# Altium footprint library orbit_PA.PcbLib: 12 footprints
Each footprint in its own frame and in the unit in brackets; x right, y up, seen from the top. Pads: shape width x height; smd on the part's side, far side on the other; paste and mask are expansions set on the pad; w line width, h text height; cw(c..) or ccw(c..) is an arc to the next point about the centre after c.
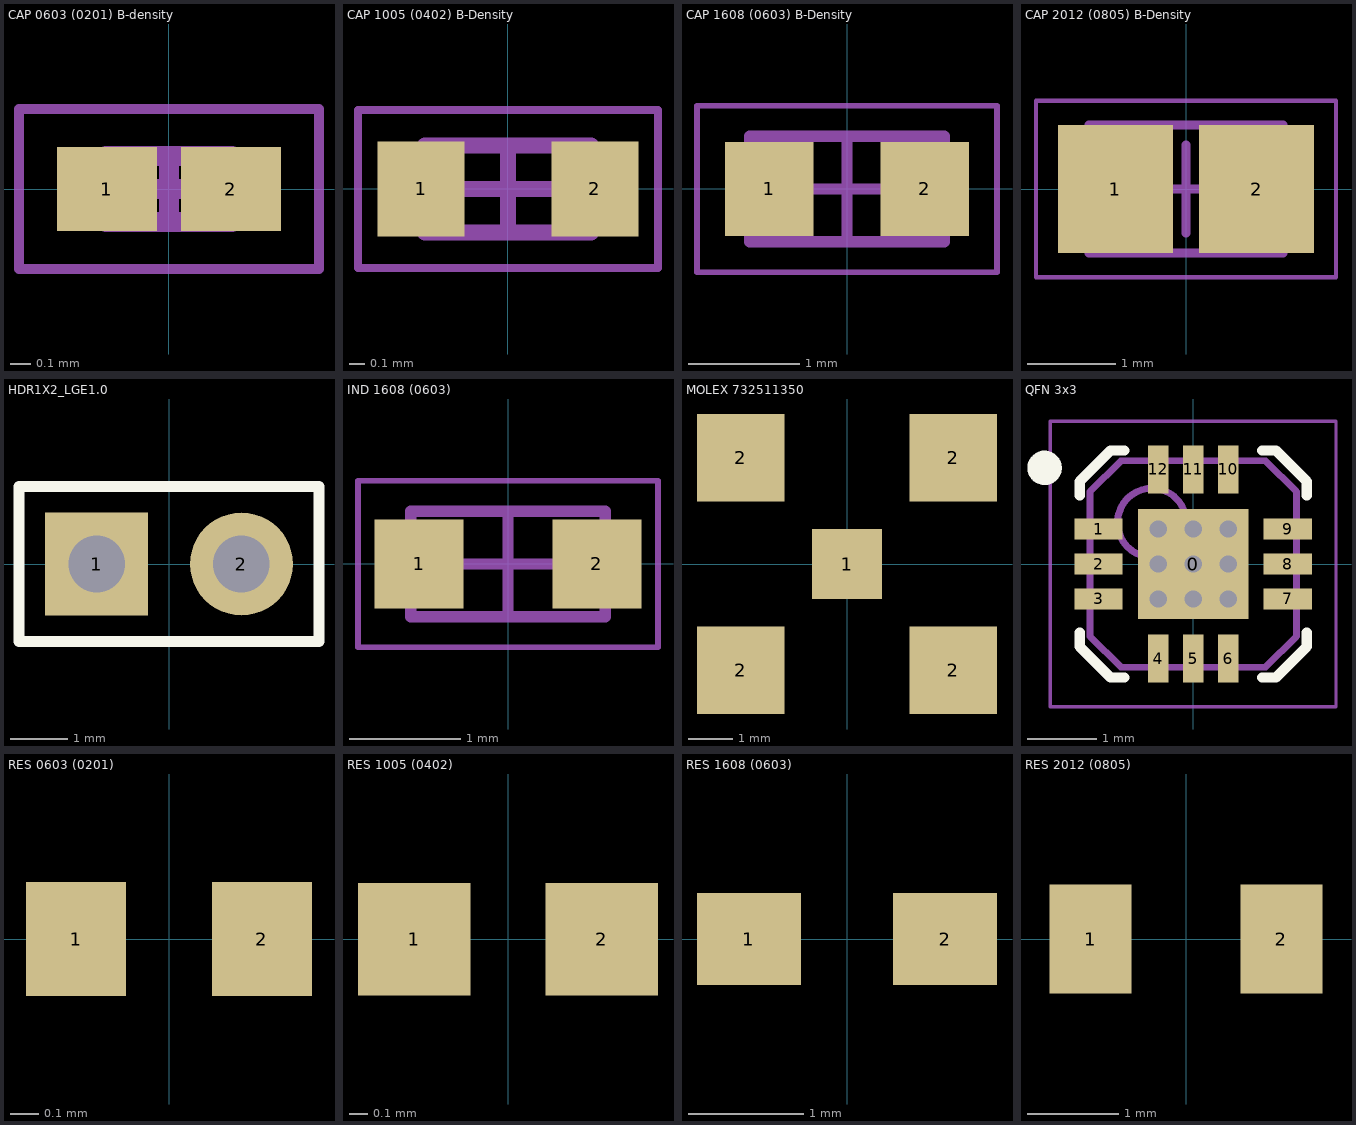
[diagram p0: the footprints below, top view; thin cyan lines are the x and y axes]

## CAP 0603 (0201) B-density [mm]
height 0.33
pads (2):
  rect 0.5x0.42 smd: 1(-0.31,0) 2(0.31,0)
Mechanical 13:
  lines w0.1: -0.315,-0.165 -0.315,0.165 0.315,0.165 0.315,-0.165 -0.315,-0.165
Mechanical 15:
  lines w0.05: -0.75,-0.4 -0.75,0.4 0.75,0.4 0.75,-0.4 -0.75,-0.4
  lines w0.1: -0.165,0 0.165,0 ; 0,-0.165 0,0.165
3D body: height 0.33, standoff 0, extent -0.165,-0.165 0.165,0.165
3D body: height 0.33, standoff 0, extent -0.315,-0.165 -0.165,0.165
3D body: height 0.33, standoff 0, extent 0.165,-0.165 0.315,0.165

## CAP 1005 (0402) B-Density [mm]
height 0.6
pads (2):
  rect 0.55x0.6 smd: 1(-0.55,0) 2(0.55,0)
Mechanical 13:
  lines w0.1: -0.525,-0.275 -0.525,0.275 0.525,0.275 0.525,-0.275 -0.525,-0.275
Mechanical 15:
  lines w0.05: -0.95,-0.5 -0.95,0.5 0.95,0.5 0.95,-0.5 -0.95,-0.5
  lines w0.1: -0.275,0 0.275,0 ; 0,-0.275 0,0.275
3D body: height 0.6, standoff 0, extent -0.225,-0.275 0.225,0.275
3D body: height 0.6, standoff 0, extent -0.525,-0.275 -0.225,0.275
3D body: height 0.6, standoff 0, extent 0.225,-0.275 0.525,0.275

## CAP 1608 (0603) B-Density [mm]
height 0.92
pads (2):
  rect 0.8x0.85 smd: 1(-0.7,0) 2(0.7,0)
Mechanical 13:
  lines w0.1: -0.875,-0.475 0.875,-0.475 0.875,0.475 -0.875,0.475 -0.875,-0.475
Mechanical 15:
  lines w0.05: -1.35,-0.75 1.35,-0.75 1.35,0.75 -1.35,0.75 -1.35,-0.75
  lines w0.1: -0.475,0 0.475,0 ; 0,-0.475 0,0.475
3D body: height 0.92, standoff 0, extent 0.525,-0.475 0.875,0.475
3D body: height 0.92, standoff 0, extent -0.875,-0.475 -0.525,0.475
3D body: height 0.92, standoff 0, extent -0.525,-0.475 0.525,0.475

## CAP 2012 (0805) B-Density [mm]
height 1.4
pads (2):
  rect 1.3x1.45 smd: 1(-0.8,0) 2(0.8,0)
Mechanical 13:
  lines w0.1: -1.1,-0.725 -1.1,0.725 1.1,0.725 1.1,-0.725 -1.1,-0.725
Mechanical 15:
  lines w0.05: -1.7,-1 -1.7,1 1.7,1 1.7,-1 -1.7,-1
  lines w0.1: -0.5,0 0.5,0 ; 0,-0.5 0,0.5
3D body: height 1.4, standoff 0, extent -0.6,-0.725 0.6,0.725
3D body: height 1.4, standoff 0, extent -1.1,-0.725 -0.6,0.725
3D body: height 1.4, standoff 0, extent 0.6,-0.725 1.1,0.725

## HDR1X2_LGE1.0 [mm] "Connector; Header; 2 Position; 2.54mm (100mil) pitch"
pads (2):
  rect 1.8x1.8 hole 0.991: 1(-1.27,0)
  round 1.8 hole 0.991: 2(1.27,0)
Top Overlay:
  lines w0.2: -2.629,-1.359 -2.629,1.359 2.629,1.359 2.629,-1.359 -2.629,-1.359
3D body "Header1x2.STEP": height 8.54, standoff -3, extent -2.54,-1.245 2.54,1.245

## IND 1608 (0603) [mm]
height 0.95
pads (2):
  rect 0.8x0.8 smd: 1(-0.8,0) 2(0.8,0)
Mechanical 13:
  lines w0.1: -0.875,-0.475 -0.875,0.475 0.875,0.475 0.875,-0.475 -0.875,-0.475
Mechanical 15:
  lines w0.05: -1.35,-0.75 -1.35,0.75 1.35,0.75 1.35,-0.75 -1.35,-0.75
  lines w0.1: -0.475,0 0.475,0 ; 0,-0.475 0,0.475
3D body: height 0.95, standoff 0, extent -0.525,-0.475 0.525,0.475
3D body: height 0.95, standoff 0, extent -0.875,-0.475 -0.525,0.475
3D body: height 0.95, standoff 0, extent 0.525,-0.475 0.875,0.475

## MOLEX 732511350 [mm] "SMA Connector"
height 9.7
pads (5):
  rect 1.57x1.57 smd: 1(0,0)
  rect 1.96x1.96 smd: 2(-2.375,-2.375) 2(-2.375,2.375) 2(2.375,-2.375) 2(2.375,2.375)
3D body "732511350.stp": height 9.55, standoff 0.03, extent -3.175,-3.175 3.175,3.175

## QFN 3x3 [mm] "QFN, 12-Leads, Body 3.00x3.00mm, Pitch 0.50mm, Thermal Pad 1.50x1.50mm, IPC Medium Density (MMZ)"
height 0.9
pads (22):
  round 0 hole 0.25 paste+0 mask+0: 0(-0.508,-0.508) 0(-0.508,0) 0(-0.508,0.508) 0(0,-0.508) 0(0,0) 0(0,0.508) 0(0.508,-0.508) 0(0.508,0) 0(0.508,0.508)
  rect 1.6x1.6 smd: 0(0,0)
  rect 0.7x0.3 smd: 1(-1.375,0.508) 2(-1.375,0) 3(-1.375,-0.508) 7(1.375,-0.508) 8(1.375,0) 9(1.375,0.508)
  rect 0.3x0.7 smd: 4(-0.508,-1.375) 5(0,-1.375) 6(0.508,-1.375) 10(0.508,1.375) 11(0,1.375) 12(-0.508,1.375)
Top Overlay:
  circle w0.25: c-2.159,1.397 r0.125
  lines w0.15: -1.65,-1 -1.65,-1.2 -1.2,-1.65 -1,-1.65 ; -1.65,1 -1.65,1.2 -1.2,1.65 -1,1.65 ; 1,-1.65 1.2,-1.65 1.65,-1.2 1.65,-1 ; 1,1.65 1.2,1.65 1.65,1.2 1.65,1
Mechanical 13:
  circle w0.1: c-0.6,0.6 r0.5
  lines w0.1: -1.5,-1.05 -1.05,-1.5 1.05,-1.5 1.5,-1.05 1.5,1.05 1.05,1.5 -1.05,1.5 -1.5,1.05 -1.5,-1.05
Mechanical 15:
  lines w0.05: -2.075,-2.075 -2.075,2.075 2.075,2.075 2.075,-2.075 -2.075,-2.075
  lines w0.1: -0.5,0 0.5,0 ; 0,-0.5 0,0.5
3D body: height 0.9, standoff 0.05, extent -1.5,-1.5 1.5,1.5

## RES 0603 (0201) [mm]
pads (2):
  rect 0.35x0.4 smd: 1(-0.325,0) 2(0.325,0)

## RES 1005 (0402) [mm]
pads (2):
  rect 0.6x0.6 smd: 1(-0.5,0) 2(0.5,0)
3D body "CR1005-0402.step": height 0.35, standoff 0, extent -0.5,-0.25 0.5,0.25

## RES 1608 (0603) [mm]
pads (2):
  rect 0.9x0.8 smd: 1(-0.85,0) 2(0.85,0)

## RES 2012 (0805) [mm]
pads (2):
  rect 0.9x1.2 smd: 1(-1.05,0) 2(1.05,0)